# Altium footprint library Optoisolators.PcbLib: 2 footprints
Each footprint in its own frame and in the unit in brackets; x right, y up, seen from the top. Pads: shape width x height; smd on the part's side, far side on the other; paste and mask are expansions set on the pad; w line width, h text height; cw(c..) or ccw(c..) is an arc to the next point about the centre after c.
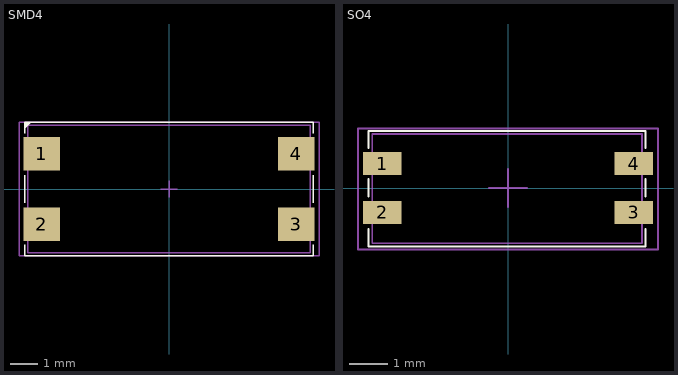
[diagram p0: the footprints below, top view; thin cyan lines are the x and y axes]

## SMD4 [mm]
pads (4):
  rect 1.3x1.2 smd mask+0.05: 1(-4.58,1.27) 2(-4.58,-1.27) 3(4.58,-1.27) 4(4.58,1.27)
Top Overlay:
  lines w0.05: -5.2,-2 -5.2,-2.4 5.2,-2.4 5.2,-2 ; -5.2,-0.5 -5.2,0.5 ; -5.2,2 -5.2,2.4 ; -5.175,2.275 -5.082,2.334 -5,2.4 ; -5.1,2.3 -5.2,2.4 ; 5.2,-0.5 5.2,0.5 ; 5.2,2 5.2,2.4 -5.2,2.4 ; -5,2.4 -5.15,2.35 -5.2,2.2 -5,2.4
Top 3D Body:
  lines w0.05: -5.08,-2.3 5.08,-2.3 5.08,2.3 -5.08,2.3 -5.08,-2.3
Top Component Center:
  lines w0.05: -0.3,0 0.3,0 ; 0,-0.3 0,0.3 ; -5.4,-2.4 5.4,-2.4 5.4,2.4 -5.4,2.4 -5.4,-2.4
Top Designator:
  text ".Designator" at -0.6,-0.233 h0.5
3D body "LTV-817S-TA1-C.STEP": height 4.65, standoff 0.05, extent -5.08,-2.3 5.08,2.3

## SO4 [mm]
pads (4):
  rect 1x0.6 smd mask+0.05: 1(-3.275,0.635) 2(-3.275,-0.635) 3(3.275,-0.635) 4(3.275,0.635)
Top Overlay:
  lines w0.05: -3.625,-1.065 -3.625,-1.515 2.675,-1.515 3.575,-1.515 3.575,-1.065 ; -3.625,-0.215 -3.625,0.235 ; -3.625,1.035 -3.625,1.485 3.575,1.485 3.575,1.035 ; 3.575,-0.215 3.575,0.235
Top 3D Body:
  lines w0.05: -3.529,-1.436 -3.529,1.404 3.48,1.404 3.48,-1.436 -3.529,-1.436
Top Component Center:
  lines w0.05: -0.5,0 0.5,0 ; 0,-0.5 0,0.5 ; -3.9,-1.6 3.9,-1.6 3.9,1.55 -3.9,1.55 -3.9,-1.6
Top Designator:
  lines w0.05: -3.9,-1.6 3.9,-1.6 3.9,1.55 -3.9,1.55 -3.9,-1.6
  text ".Designator" at 0.1,-0.233 h0.5
3D body "SO4.stp": height 2.21, standoff 0.01, extent -3.53,-1.435 3.48,1.405